# EAGLE library part LTC3547 (library PowerProducts)
LT-Spice library generated with : ltspice.ulp from: D:/Program Files (x86)/LTC/LTspiceIV/lib/sym/PowerProducts/LTC3547B*.asy at 07.10.2012 18:17:57
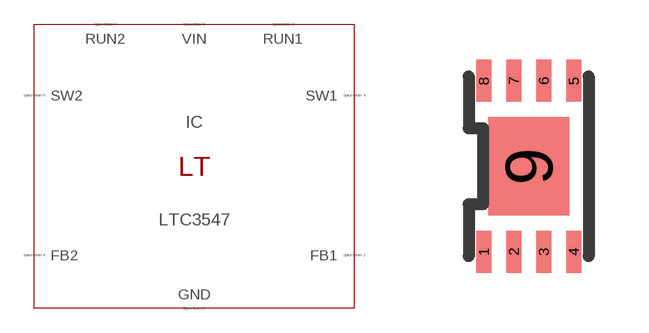
[diagram p242: symbol with the pads of DFN8(DDB); footprint DFN8(DDB)]

Designator prefix IC

## LTC3547 (SPICEMODEL: LTC3547.sub; SPICEPREFIX: X; VALUE2: LTC3547)  [DFN8(DDB)]
1  FB1  pas
2  RUN1  pas
3  VIN  pas
4  SW1  pas
5  GND  pas
6  SW2  pas
7  RUN2  pas
8  FB2  pas
9  GND  pas

## Footprint DFN8(DDB) (pad centres in mm)
Package generated from: DFN8(DDB).asc (!PADS-POWERPCB-V5.0-BASIC! DESIGN DATABASE ASCII FILE 1.0) with :import-pads-powerpcb-v5.ulp Version 1.0.1 at 04.10.2012 14:11:17
smd 0.375 x 1.05: 1 -1.125,-2.138; 2 -0.375,-2.138; 3 0.375,-2.138; 4 1.125,-2.138; 5 1.125,2.138; 6 0.375,2.138; 7 -0.375,2.138; 8 -1.125,2.138
smd 2.025 x 2.475: 9 0,0